# EAGLE library part KA2102A (library Audio-Power-amlifier)
http://www.datasheetcatalog.org/datasheet/SamsungElectronic/mXuztvq.pdf
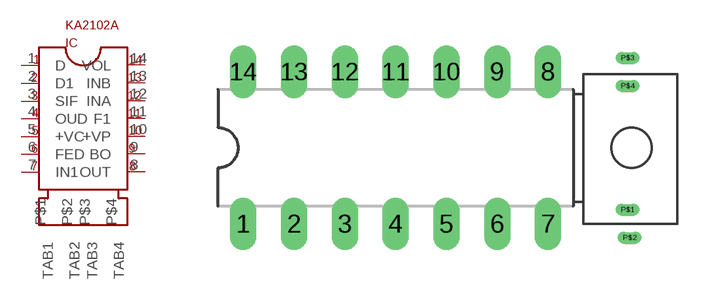
[diagram p23: symbol with the pads of 14-DIPH-300; footprint 14-DIPH-300]

Designator prefix IC

## KA2102A  [14-DIPH-300]
1  D
2  D1
3  SIF
4  OUD  out
5  +VC  pwr
6  FED
7  IN1
8  OUT  out
9  BO
10  +VP  pwr
11  F1
12  INA
13  INB
14  VOL
P$1  TAB1
P$2  TAB2
P$3  TAB3
P$4  TAB4

## Footprint 14-DIPH-300 (pad centres in mm)
Dual In Line Package
drill 0.813 long: 1 -7.62,-3.81; 2 -5.08,-3.81; 3 -2.54,-3.81; 4 0,-3.81; 5 2.54,-3.81; 6 5.08,-3.81; 7 7.62,-3.81; 8 7.62,3.81; 9 5.08,3.81; 10 2.54,3.81; 11 0,3.81; 12 -2.54,3.81; 13 -5.08,3.81; 14 -7.62,3.81
drill 0 pad 0.61 long: P$1 11.6,-3.1; P$2 11.7,-4.5; P$3 11.6,4.5; P$4 11.6,3.1